# Altium footprint library SKY65111.PcbLib: 1 footprints
Each footprint in its own frame and in the unit in brackets; x right, y up, seen from the top. Pads: shape width x height; smd on the part's side, far side on the other; paste and mask are expansions set on the pad; w line width, h text height; cw(c..) or ccw(c..) is an arc to the next point about the centre after c.
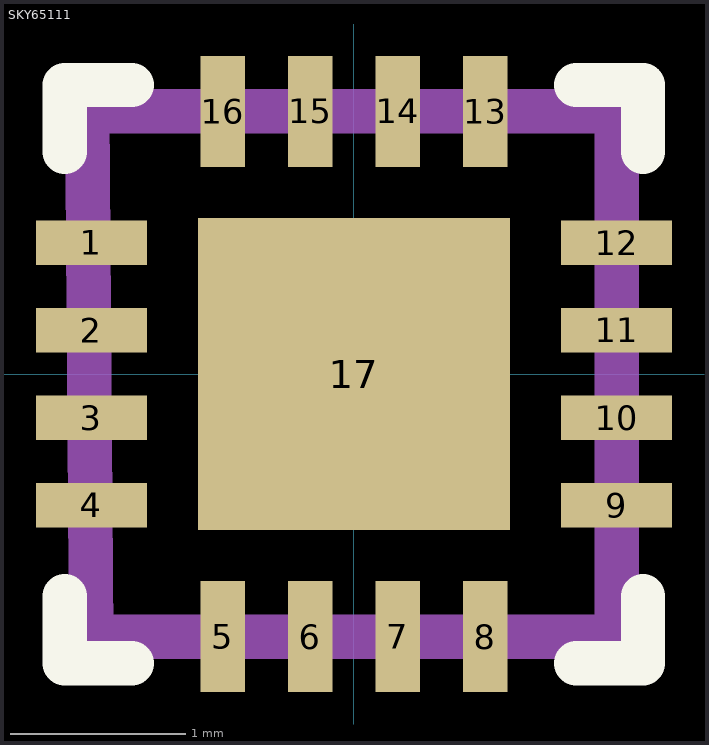
[diagram p0: the footprint, top view; thin cyan lines are the x and y axes]

## SKY65111 [mil]
pads (17):
  rect 25x10 smd: 1(-59.05,29.53) 2(-59.05,9.84) 3(-59.05,-9.84) 4(-59.05,-29.53) 9(59.06,-29.53) 10(59.06,-9.84) 11(59.06,9.84) 12(59.06,29.53)
  rect 10x25 smd: 5(-29.53,-59.05) 6(-9.84,-59.05) 7(9.84,-59.05) 8(29.53,-59.05) 13(29.53,59.06) 14(9.84,59.06) 15(-9.84,59.06) 16(-29.53,59.06)
  rect 70.1x70.1 smd: 17(0,0)
Top Overlay:
  lines w10: -65,-50 -65,-65 -50,-65 ; -65,50 -65,65 -50,65 ; 50,-65 65,-65 65,-50 ; 50,65 65,65 65,50
Mechanical 1:
  lines w10: -60,59.06 59.06,59.06 59.06,-59.06 -59.06,-59.06 -60,59.06
3D body "SKY65111.STEP": height 30, standoff 0, extent -59.05,-59.05 59.06,59.06